# Altium schematic symbol library MySchlib.SchLib: 44 symbols
Pins are listed as number, name and electrical type; pins without a type are passive.

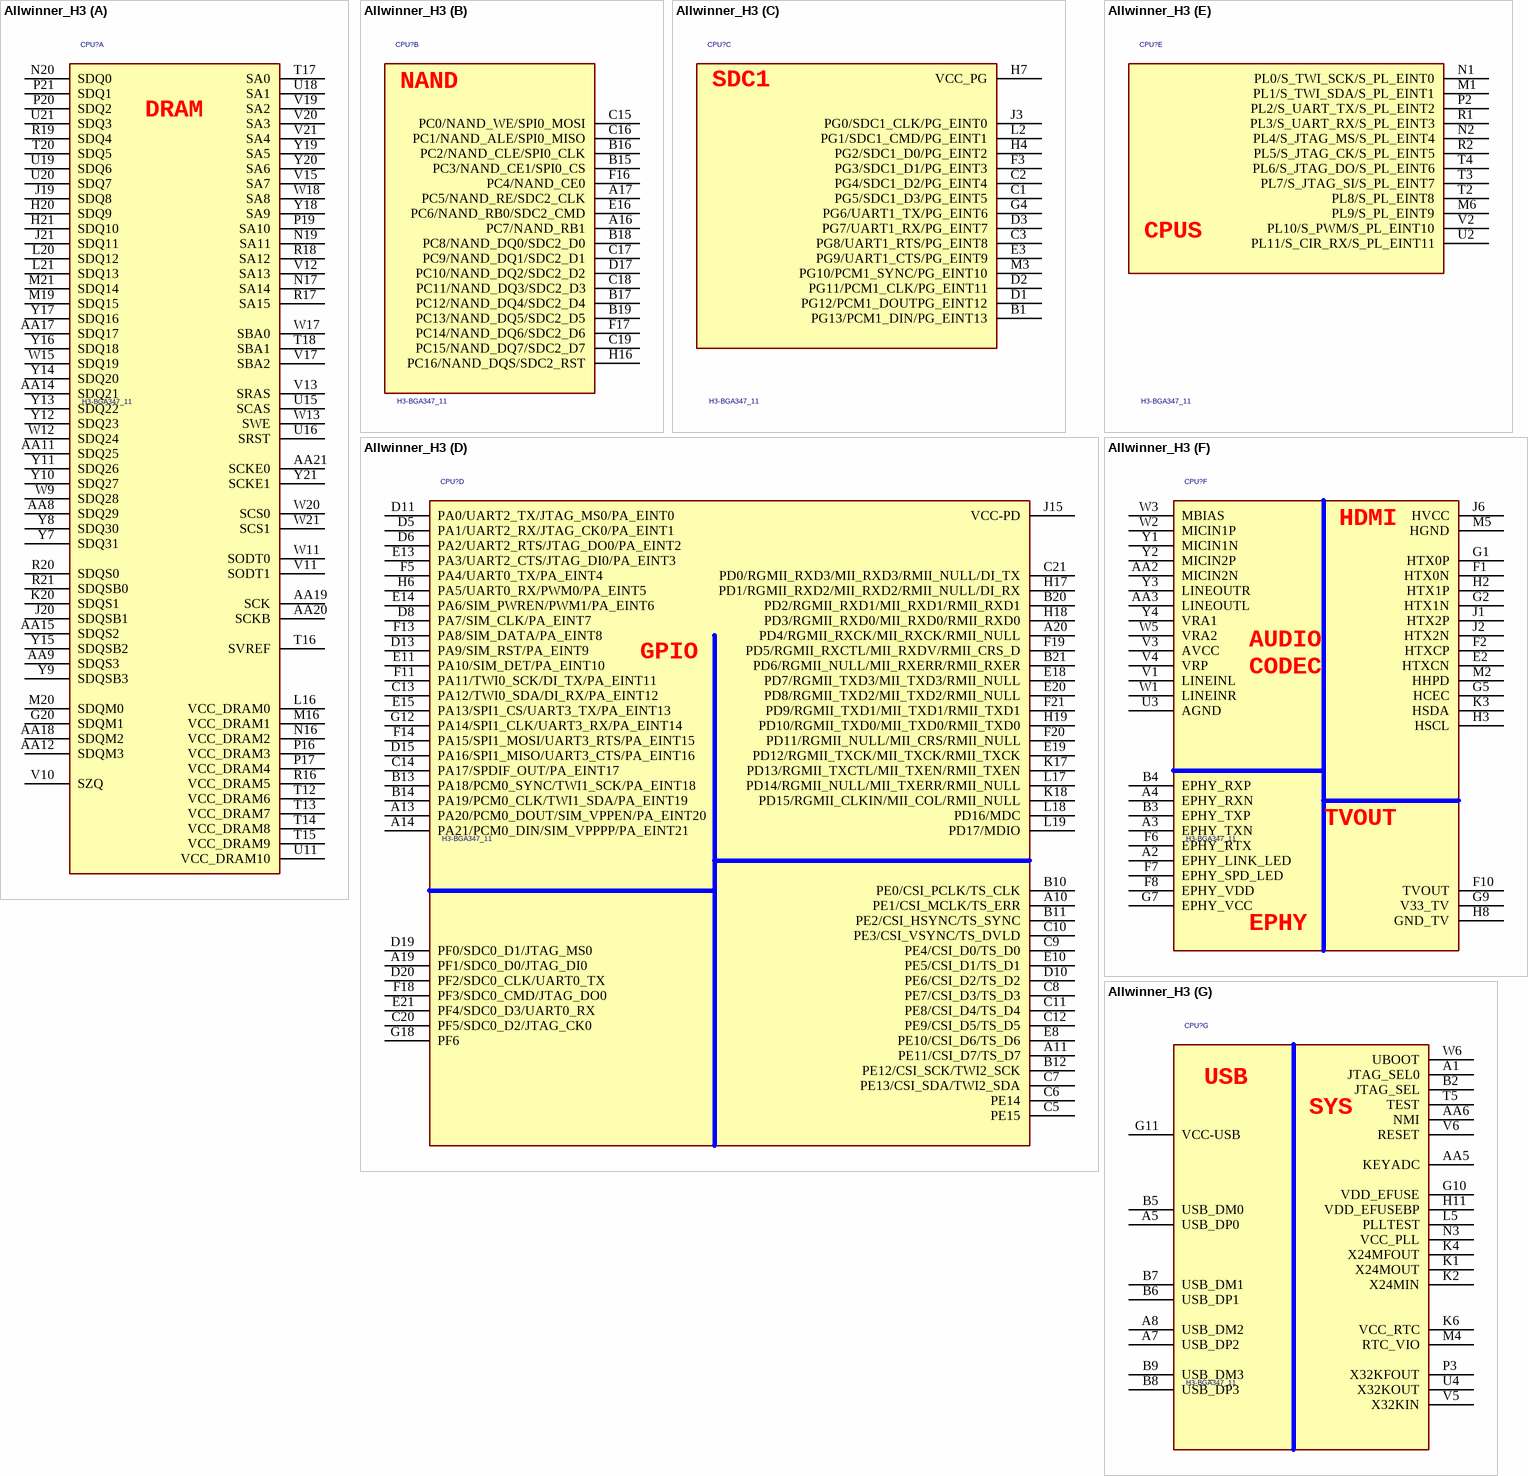
[diagram p0: symbol Allwinner_H3]

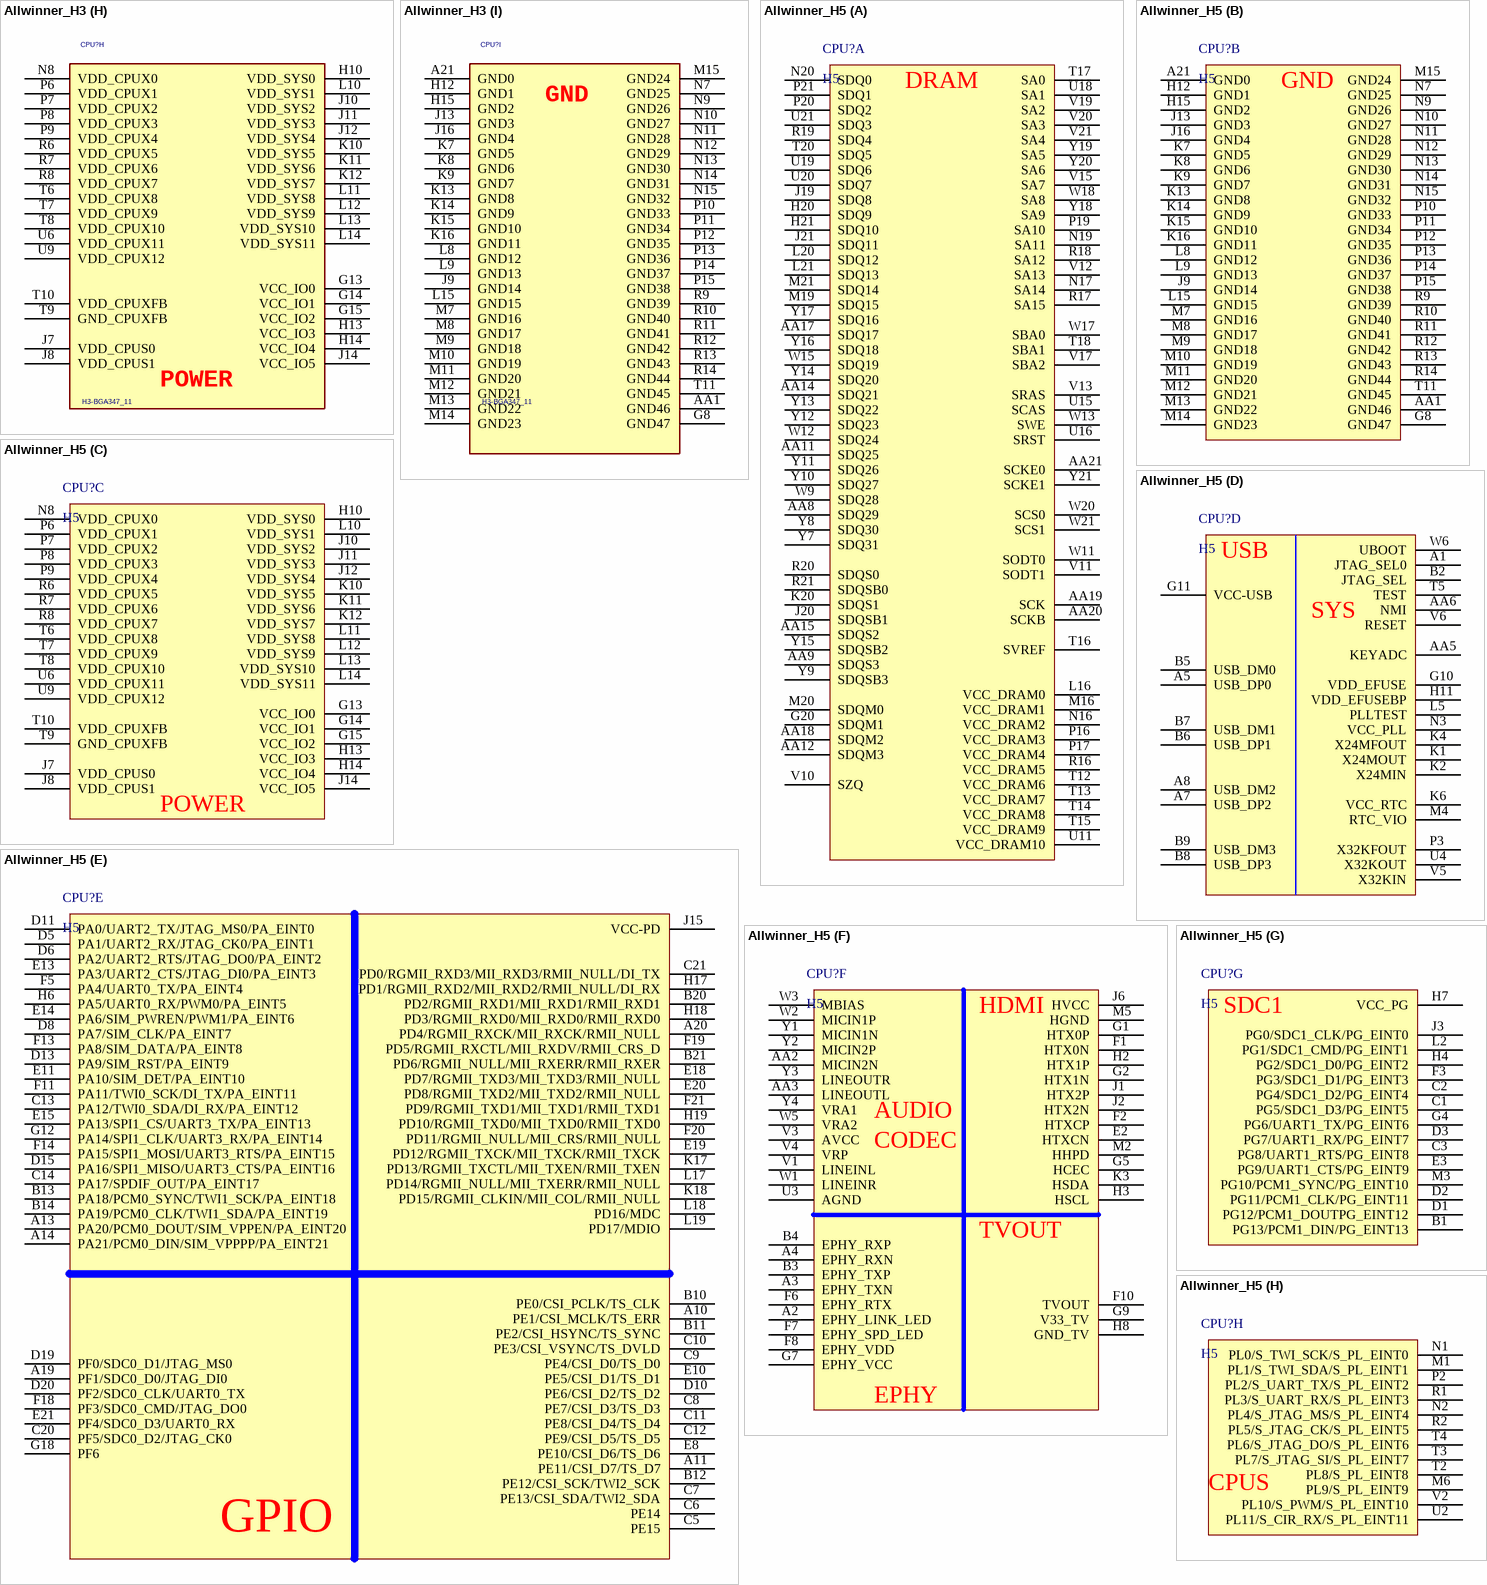
[diagram p1: symbols Allwinner_H3 to Allwinner_H5]

## Allwinner_H3
designator CPU?, comment H3-BGA347_11
H3-BGA3XX_11_BGA347P0_65B14X14
footprint BGA347P0_65B14X14
part A pins: AA8 SDQ29, AA9 SDQS3, AA11 SDQ25, AA12 SDQM3, AA14 SDQ21, AA15 SDQS2, AA17 SDQ17, AA18 SDQM2, AA19 SCK, AA20 SCKB, AA21 SCKE0, G20 SDQM1, H20 SDQ9, H21 SDQ10, J19 SDQ8, J20 SDQSB1, J21 SDQ11, K20 SDQS1, L16 VCC_DRAM0, L20 SDQ12, L21 SDQ13, M16 VCC_DRAM1, M19 SDQ15, M20 SDQM0, M21 SDQ14, N16 VCC_DRAM2, N17 SA14, N19 SA11, N20 SDQ0, P16 VCC_DRAM3, P17 VCC_DRAM4, P19 SA10, P20 SDQ2, P21 SDQ1, R16 VCC_DRAM5, R17 SA15, R18 SA12, R19 SDQ4, R20 SDQS0, R21 SDQSB0, T12 VCC_DRAM6, T13 VCC_DRAM7, T14 VCC_DRAM8, T15 VCC_DRAM9, T16 SVREF, T17 SA0, T18 SBA1, T20 SDQ5, U11 VCC_DRAM10, U15 SCAS, U16 SRST, U18 SA1, U19 SDQ6, U20 SDQ7, U21 SDQ3, V10 SZQ, V11 SODT1, V12 SA13, V13 SRAS, V15 SA7, V17 SBA2, V19 SA2, V20 SA3, V21 SA4, W9 SDQ28, W11 SODT0, W12 SDQ24, W13 SWE, W15 SDQ19, W17 SBA0, W18 SA8, W20 SCS0, W21 SCS1, Y7 SDQ31, Y8 SDQ30, Y9 SDQSB3, Y10 SDQ27, Y11 SDQ26, Y12 SDQ23, Y13 SDQ22, Y14 SDQ20, Y15 SDQSB2, Y16 SDQ18, Y17 SDQ16, Y18 SA9, Y19 SA5, Y20 SA6, Y21 SCKE1
part B pins: A16 PC7/NAND_RB1, A17 PC5/NAND_RE/SDC2_CLK, B15 PC3/NAND_CE1/SPI0_CS, B16 PC2/NAND_CLE/SPI0_CLK, B17 PC12/NAND_DQ4/SDC2_D4, B18 PC8/NAND_DQ0/SDC2_D0, B19 PC13/NAND_DQ5/SDC2_D5, C15 PC0/NAND_WE/SPI0_MOSI, C16 PC1/NAND_ALE/SPI0_MISO, C17 PC9/NAND_DQ1/SDC2_D1, C18 PC11/NAND_DQ3/SDC2_D3, C19 PC15/NAND_DQ7/SDC2_D7, D17 PC10/NAND_DQ2/SDC2_D2, E16 PC6/NAND_RB0/SDC2_CMD, F16 PC4/NAND_CE0, F17 PC14/NAND_DQ6/SDC2_D6, H16 PC16/NAND_DQS/SDC2_RST
part C pins: B1 PG13/PCM1_DIN/PG_EINT13, C1 PG5/SDC1_D3/PG_EINT5, C2 PG4/SDC1_D2/PG_EINT4, C3 PG8/UART1_RTS/PG_EINT8, D1 PG12/PCM1_DOUTPG_EINT12, D2 PG11/PCM1_CLK/PG_EINT11, D3 PG7/UART1_RX/PG_EINT7, E3 PG9/UART1_CTS/PG_EINT9, F3 PG3/SDC1_D1/PG_EINT3, G4 PG6/UART1_TX/PG_EINT6, H4 PG2/SDC1_D0/PG_EINT2, H7 VCC_PG, J3 PG0/SDC1_CLK/PG_EINT0, L2 PG1/SDC1_CMD/PG_EINT1, M3 PG10/PCM1_SYNC/PG_EINT10
part D pins: A10 PE1/CSI_MCLK/TS_ERR, A11 PE11/CSI_D7/TS_D7, A13 PA20/PCM0_DOUT/SIM_VPPEN/PA_EINT20, A14 PA21/PCM0_DIN/SIM_VPPPP/PA_EINT21, A19 PF1/SDC0_D0/JTAG_DI0, A20 PD4/RGMII_RXCK/MII_RXCK/RMII_NULL, B10 PE0/CSI_PCLK/TS_CLK, B11 PE2/CSI_HSYNC/TS_SYNC, B12 PE12/CSI_SCK/TWI2_SCK, B13 PA18/PCM0_SYNC/TWI1_SCK/PA_EINT18, B14 PA19/PCM0_CLK/TWI1_SDA/PA_EINT19, B20 PD2/RGMII_RXD1/MII_RXD1/RMII_RXD1, B21 PD6/RGMII_NULL/MII_RXERR/RMII_RXER, C5 PE15, C6 PE14, C7 PE13/CSI_SDA/TWI2_SDA, C8 PE7/CSI_D3/TS_D3, C9 PE4/CSI_D0/TS_D0, C10 PE3/CSI_VSYNC/TS_DVLD, C11 PE8/CSI_D4/TS_D4, C12 PE9/CSI_D5/TS_D5, C13 PA12/TWI0_SDA/DI_RX/PA_EINT12, C14 PA17/SPDIF_OUT/PA_EINT17, C20 PF5/SDC0_D2/JTAG_CK0, C21 PD0/RGMII_RXD3/MII_RXD3/RMII_NULL/DI_TX, D5 PA1/UART2_RX/JTAG_CK0/PA_EINT1, D6 PA2/UART2_RTS/JTAG_DO0/PA_EINT2, D8 PA7/SIM_CLK/PA_EINT7, D10 PE6/CSI_D2/TS_D2, D11 PA0/UART2_TX/JTAG_MS0/PA_EINT0, D13 PA9/SIM_RST/PA_EINT9, D15 PA16/SPI1_MISO/UART3_CTS/PA_EINT16, D19 PF0/SDC0_D1/JTAG_MS0, D20 PF2/SDC0_CLK/UART0_TX, E8 PE10/CSI_D6/TS_D6, E10 PE5/CSI_D1/TS_D1, E11 PA10/SIM_DET/PA_EINT10, E13 PA3/UART2_CTS/JTAG_DI0/PA_EINT3, E14 PA6/SIM_PWREN/PWM1/PA_EINT6, E15 PA13/SPI1_CS/UART3_TX/PA_EINT13, E18 PD7/RGMII_TXD3/MII_TXD3/RMII_NULL, E19 PD12/RGMII_TXCK/MII_TXCK/RMII_TXCK, E20 PD8/RGMII_TXD2/MII_TXD2/RMII_NULL, E21 PF4/SDC0_D3/UART0_RX, F5 PA4/UART0_TX/PA_EINT4, F11 PA11/TWI0_SCK/DI_TX/PA_EINT11, F13 PA8/SIM_DATA/PA_EINT8, F14 PA15/SPI1_MOSI/UART3_RTS/PA_EINT15, F18 PF3/SDC0_CMD/JTAG_DO0, F19 PD5/RGMII_RXCTL/MII_RXDV/RMII_CRS_D, F20 PD11/RGMII_NULL/MII_CRS/RMII_NULL, F21 PD9/RGMII_TXD1/MII_TXD1/RMII_TXD1, G12 PA14/SPI1_CLK/UART3_RX/PA_EINT14, G18 PF6, H6 PA5/UART0_RX/PWM0/PA_EINT5, H17 PD1/RGMII_RXD2/MII_RXD2/RMII_NULL/DI_RX, H18 PD3/RGMII_RXD0/MII_RXD0/RMII_RXD0, H19 PD10/RGMII_TXD0/MII_TXD0/RMII_TXD0, J15 VCC-PD, K17 PD13/RGMII_TXCTL/MII_TXEN/RMII_TXEN, K18 PD15/RGMII_CLKIN/MII_COL/RMII_NULL, L17 PD14/RGMII_NULL/MII_TXERR/RMII_NULL, L18 PD16/MDC, L19 PD17/MDIO
part E pins: M1 PL1/S_TWI_SDA/S_PL_EINT1, M6 PL9/S_PL_EINT9, N1 PL0/S_TWI_SCK/S_PL_EINT0, N2 PL4/S_JTAG_MS/S_PL_EINT4, P2 PL2/S_UART_TX/S_PL_EINT2, R1 PL3/S_UART_RX/S_PL_EINT3, R2 PL5/S_JTAG_CK/S_PL_EINT5, T2 PL8/S_PL_EINT8, T3 PL7/S_JTAG_SI/S_PL_EINT7, T4 PL6/S_JTAG_DO/S_PL_EINT6, U2 PL11/S_CIR_RX/S_PL_EINT11, V2 PL10/S_PWM/S_PL_EINT10
part F pins: A2 EPHY_LINK_LED, A3 EPHY_TXN, A4 EPHY_RXN, AA2 MICIN2N, AA3 LINEOUTL, B3 EPHY_TXP, B4 EPHY_RXP, E2 HTXCN, F1 HTX0N, F2 HTXCP, F6 EPHY_RTX, F7 EPHY_SPD_LED, F8 EPHY_VDD, F10 TVOUT, G1 HTX0P, G2 HTX1N, G5 HCEC, G7 EPHY_VCC, G9 V33_TV, H2 HTX1P, H3 HSCL, H8 GND_TV, J1 HTX2P, J2 HTX2N, J6 HVCC, K3 HSDA, M2 HHPD, M5 HGND, U3 AGND, V1 LINEINL, V3 AVCC, V4 VRP, W1 LINEINR, W2 MICIN1P, W3 MBIAS, W5 VRA2, Y1 MICIN1N, Y2 MICIN2P, Y3 LINEOUTR, Y4 VRA1
part G pins: A1 JTAG_SEL0, A5 USB_DP0, A7 USB_DP2, A8 USB_DM2, AA5 KEYADC, AA6 NMI, B2 JTAG_SEL, B5 USB_DM0, B6 USB_DP1, B7 USB_DM1, B8 USB_DP3, B9 USB_DM3, G10 VDD_EFUSE, G11 VCC-USB, H11 VDD_EFUSEBP, K1 X24MOUT, K2 X24MIN, K4 X24MFOUT, K6 VCC_RTC, L5 PLLTEST, M4 RTC_VIO, N3 VCC_PLL, P3 X32KFOUT, T5 TEST, U4 X32KOUT, V5 X32KIN, V6 RESET, W6 UBOOT
part H pins: G13 VCC_IO0, G14 VCC_IO1, G15 VCC_IO2, H10 VDD_SYS0, H13 VCC_IO3, H14 VCC_IO4, J7 VDD_CPUS0, J8 VDD_CPUS1, J10 VDD_SYS2, J11 VDD_SYS3, J12 VDD_SYS4, J14 VCC_IO5, K10 VDD_SYS5, K11 VDD_SYS6, K12 VDD_SYS7, L10 VDD_SYS1, L11 VDD_SYS8, L12 VDD_SYS9, L13 VDD_SYS10, L14 VDD_SYS11, N8 VDD_CPUX0, P6 VDD_CPUX1, P7 VDD_CPUX2, P8 VDD_CPUX3, P9 VDD_CPUX4, R6 VDD_CPUX5, R7 VDD_CPUX6, R8 VDD_CPUX7, T6 VDD_CPUX8, T7 VDD_CPUX9, T8 VDD_CPUX10, T9 GND_CPUXFB, T10 VDD_CPUXFB, U6 VDD_CPUX11, U9 VDD_CPUX12
part I pins: A21 GND0, AA1 GND46, G8 GND47, H12 GND1, H15 GND2, J9 GND14, J13 GND3, J16 GND4, K7 GND5, K8 GND6, K9 GND7, K13 GND8, K14 GND9, K15 GND10, K16 GND11, L8 GND12, L9 GND13, L15 GND15, M7 GND16, M8 GND17, M9 GND18, M10 GND19, M11 GND20, M12 GND21, M13 GND22, M14 GND23, M15 GND24, N7 GND25, N9 GND26, N10 GND27, N11 GND28, N12 GND29, N13 GND30, N14 GND31, N15 GND32, P10 GND33, P11 GND34, P12 GND35, P13 GND36, P14 GND37, P15 GND38, R9 GND39, R10 GND40, R11 GND41, R12 GND42, R13 GND43, R14 GND44, T11 GND45
part A text: DRAM
part B text: NAND
part C text: SDC1
part D text: GPIO
part E text: CPUS
part F text: HDMI; AUDIO / CODEC; EPHY
part G text: USB; SYS
part H text: POWER
part I text: GND

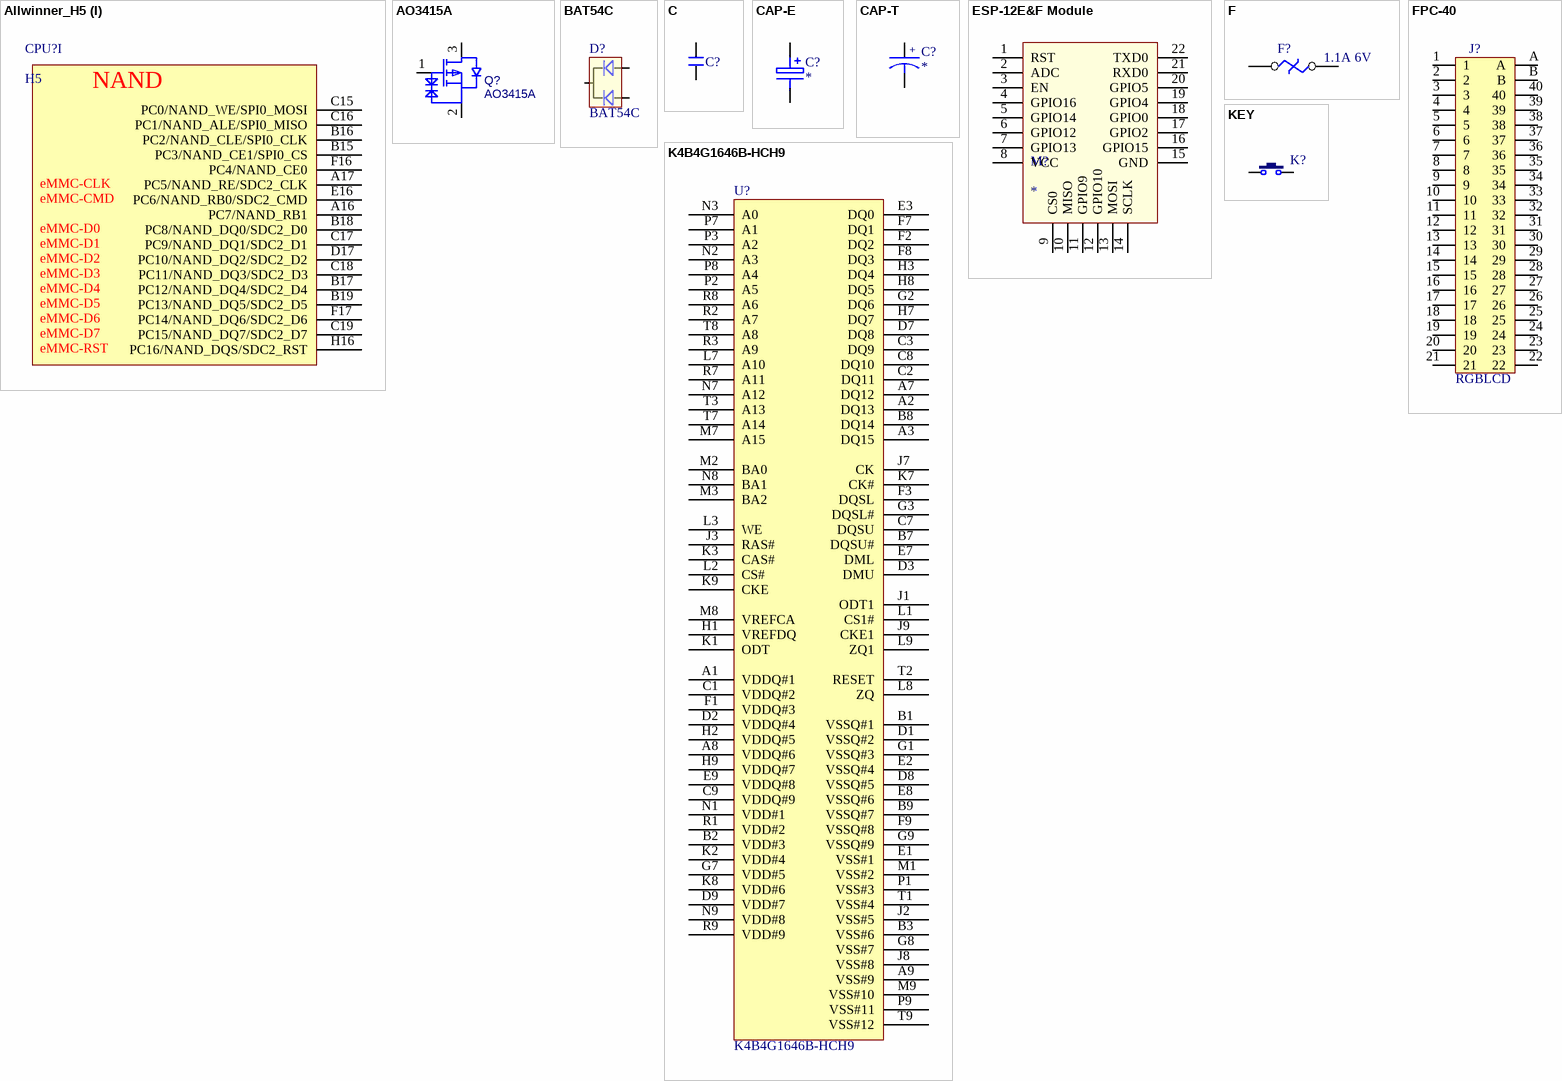
[diagram p2: symbols Allwinner_H5 to KEY]

## Allwinner_H5
designator CPU?, comment H5
H5, BGA347P0_65B14X14
footprint BGA347P0_65B14X14
part A pins: AA8 SDQ29, AA9 SDQS3, AA11 SDQ25, AA12 SDQM3, AA14 SDQ21, AA15 SDQS2, AA17 SDQ17, AA18 SDQM2, AA19 SCK, AA20 SCKB, AA21 SCKE0, G20 SDQM1, H20 SDQ9, H21 SDQ10, J19 SDQ8, J20 SDQSB1, J21 SDQ11, K20 SDQS1, L16 VCC_DRAM0, L20 SDQ12, L21 SDQ13, M16 VCC_DRAM1, M19 SDQ15, M20 SDQM0, M21 SDQ14, N16 VCC_DRAM2, N17 SA14, N19 SA11, N20 SDQ0, P16 VCC_DRAM3, P17 VCC_DRAM4, P19 SA10, P20 SDQ2, P21 SDQ1, R16 VCC_DRAM5, R17 SA15, R18 SA12, R19 SDQ4, R20 SDQS0, R21 SDQSB0, T12 VCC_DRAM6, T13 VCC_DRAM7, T14 VCC_DRAM8, T15 VCC_DRAM9, T16 SVREF, T17 SA0, T18 SBA1, T20 SDQ5, U11 VCC_DRAM10, U15 SCAS, U16 SRST, U18 SA1, U19 SDQ6, U20 SDQ7, U21 SDQ3, V10 SZQ, V11 SODT1, V12 SA13, V13 SRAS, V15 SA7, V17 SBA2, V19 SA2, V20 SA3, V21 SA4, W9 SDQ28, W11 SODT0, W12 SDQ24, W13 SWE, W15 SDQ19, W17 SBA0, W18 SA8, W20 SCS0, W21 SCS1, Y7 SDQ31, Y8 SDQ30, Y9 SDQSB3, Y10 SDQ27, Y11 SDQ26, Y12 SDQ23, Y13 SDQ22, Y14 SDQ20, Y15 SDQSB2, Y16 SDQ18, Y17 SDQ16, Y18 SA9, Y19 SA5, Y20 SA6, Y21 SCKE1
part B pins: A21 GND0, AA1 GND46, G8 GND47, H12 GND1, H15 GND2, J9 GND14, J13 GND3, J16 GND4, K7 GND5, K8 GND6, K9 GND7, K13 GND8, K14 GND9, K15 GND10, K16 GND11, L8 GND12, L9 GND13, L15 GND15, M7 GND16, M8 GND17, M9 GND18, M10 GND19, M11 GND20, M12 GND21, M13 GND22, M14 GND23, M15 GND24, N7 GND25, N9 GND26, N10 GND27, N11 GND28, N12 GND29, N13 GND30, N14 GND31, N15 GND32, P10 GND33, P11 GND34, P12 GND35, P13 GND36, P14 GND37, P15 GND38, R9 GND39, R10 GND40, R11 GND41, R12 GND42, R13 GND43, R14 GND44, T11 GND45
part C pins: G13 VCC_IO0, G14 VCC_IO1, G15 VCC_IO2, H10 VDD_SYS0, H13 VCC_IO3, H14 VCC_IO4, J7 VDD_CPUS0, J8 VDD_CPUS1, J10 VDD_SYS2, J11 VDD_SYS3, J12 VDD_SYS4, J14 VCC_IO5, K10 VDD_SYS5, K11 VDD_SYS6, K12 VDD_SYS7, L10 VDD_SYS1, L11 VDD_SYS8, L12 VDD_SYS9, L13 VDD_SYS10, L14 VDD_SYS11, N8 VDD_CPUX0, P6 VDD_CPUX1, P7 VDD_CPUX2, P8 VDD_CPUX3, P9 VDD_CPUX4, R6 VDD_CPUX5, R7 VDD_CPUX6, R8 VDD_CPUX7, T6 VDD_CPUX8, T7 VDD_CPUX9, T8 VDD_CPUX10, T9 GND_CPUXFB, T10 VDD_CPUXFB, U6 VDD_CPUX11, U9 VDD_CPUX12
part D pins: A1 JTAG_SEL0, A5 USB_DP0, A7 USB_DP2, A8 USB_DM2, AA5 KEYADC, AA6 NMI, B2 JTAG_SEL, B5 USB_DM0, B6 USB_DP1, B7 USB_DM1, B8 USB_DP3, B9 USB_DM3, G10 VDD_EFUSE, G11 VCC-USB, H11 VDD_EFUSEBP, K1 X24MOUT, K2 X24MIN, K4 X24MFOUT, K6 VCC_RTC, L5 PLLTEST, M4 RTC_VIO, N3 VCC_PLL, P3 X32KFOUT, T5 TEST, U4 X32KOUT, V5 X32KIN, V6 RESET, W6 UBOOT
part E pins: A10 PE1/CSI_MCLK/TS_ERR, A11 PE11/CSI_D7/TS_D7, A13 PA20/PCM0_DOUT/SIM_VPPEN/PA_EINT20, A14 PA21/PCM0_DIN/SIM_VPPPP/PA_EINT21, A19 PF1/SDC0_D0/JTAG_DI0, A20 PD4/RGMII_RXCK/MII_RXCK/RMII_NULL, B10 PE0/CSI_PCLK/TS_CLK, B11 PE2/CSI_HSYNC/TS_SYNC, B12 PE12/CSI_SCK/TWI2_SCK, B13 PA18/PCM0_SYNC/TWI1_SCK/PA_EINT18, B14 PA19/PCM0_CLK/TWI1_SDA/PA_EINT19, B20 PD2/RGMII_RXD1/MII_RXD1/RMII_RXD1, B21 PD6/RGMII_NULL/MII_RXERR/RMII_RXER, C5 PE15, C6 PE14, C7 PE13/CSI_SDA/TWI2_SDA, C8 PE7/CSI_D3/TS_D3, C9 PE4/CSI_D0/TS_D0, C10 PE3/CSI_VSYNC/TS_DVLD, C11 PE8/CSI_D4/TS_D4, C12 PE9/CSI_D5/TS_D5, C13 PA12/TWI0_SDA/DI_RX/PA_EINT12, C14 PA17/SPDIF_OUT/PA_EINT17, C20 PF5/SDC0_D2/JTAG_CK0, C21 PD0/RGMII_RXD3/MII_RXD3/RMII_NULL/DI_TX, D5 PA1/UART2_RX/JTAG_CK0/PA_EINT1, D6 PA2/UART2_RTS/JTAG_DO0/PA_EINT2, D8 PA7/SIM_CLK/PA_EINT7, D10 PE6/CSI_D2/TS_D2, D11 PA0/UART2_TX/JTAG_MS0/PA_EINT0, D13 PA9/SIM_RST/PA_EINT9, D15 PA16/SPI1_MISO/UART3_CTS/PA_EINT16, D19 PF0/SDC0_D1/JTAG_MS0, D20 PF2/SDC0_CLK/UART0_TX, E8 PE10/CSI_D6/TS_D6, E10 PE5/CSI_D1/TS_D1, E11 PA10/SIM_DET/PA_EINT10, E13 PA3/UART2_CTS/JTAG_DI0/PA_EINT3, E14 PA6/SIM_PWREN/PWM1/PA_EINT6, E15 PA13/SPI1_CS/UART3_TX/PA_EINT13, E18 PD7/RGMII_TXD3/MII_TXD3/RMII_NULL, E19 PD12/RGMII_TXCK/MII_TXCK/RMII_TXCK, E20 PD8/RGMII_TXD2/MII_TXD2/RMII_NULL, E21 PF4/SDC0_D3/UART0_RX, F5 PA4/UART0_TX/PA_EINT4, F11 PA11/TWI0_SCK/DI_TX/PA_EINT11, F13 PA8/SIM_DATA/PA_EINT8, F14 PA15/SPI1_MOSI/UART3_RTS/PA_EINT15, F18 PF3/SDC0_CMD/JTAG_DO0, F19 PD5/RGMII_RXCTL/MII_RXDV/RMII_CRS_D, F20 PD11/RGMII_NULL/MII_CRS/RMII_NULL, F21 PD9/RGMII_TXD1/MII_TXD1/RMII_TXD1, G12 PA14/SPI1_CLK/UART3_RX/PA_EINT14, G18 PF6, H6 PA5/UART0_RX/PWM0/PA_EINT5, H17 PD1/RGMII_RXD2/MII_RXD2/RMII_NULL/DI_RX, H18 PD3/RGMII_RXD0/MII_RXD0/RMII_RXD0, H19 PD10/RGMII_TXD0/MII_TXD0/RMII_TXD0, J15 VCC-PD, K17 PD13/RGMII_TXCTL/MII_TXEN/RMII_TXEN, K18 PD15/RGMII_CLKIN/MII_COL/RMII_NULL, L17 PD14/RGMII_NULL/MII_TXERR/RMII_NULL, L18 PD16/MDC, L19 PD17/MDIO
part F pins: A2 EPHY_LINK_LED, A3 EPHY_TXN, A4 EPHY_RXN, AA2 MICIN2N, AA3 LINEOUTL, B3 EPHY_TXP, B4 EPHY_RXP, E2 HTXCN, F1 HTX0N, F2 HTXCP, F6 EPHY_RTX, F7 EPHY_SPD_LED, F8 EPHY_VDD, F10 TVOUT, G1 HTX0P, G2 HTX1N, G5 HCEC, G7 EPHY_VCC, G9 V33_TV, H2 HTX1P, H3 HSCL, H8 GND_TV, J1 HTX2P, J2 HTX2N, J6 HVCC, K3 HSDA, M2 HHPD, M5 HGND, U3 AGND, V1 LINEINL, V3 AVCC, V4 VRP, W1 LINEINR, W2 MICIN1P, W3 MBIAS, W5 VRA2, Y1 MICIN1N, Y2 MICIN2P, Y3 LINEOUTR, Y4 VRA1
part G pins: B1 PG13/PCM1_DIN/PG_EINT13, C1 PG5/SDC1_D3/PG_EINT5, C2 PG4/SDC1_D2/PG_EINT4, C3 PG8/UART1_RTS/PG_EINT8, D1 PG12/PCM1_DOUTPG_EINT12, D2 PG11/PCM1_CLK/PG_EINT11, D3 PG7/UART1_RX/PG_EINT7, E3 PG9/UART1_CTS/PG_EINT9, F3 PG3/SDC1_D1/PG_EINT3, G4 PG6/UART1_TX/PG_EINT6, H4 PG2/SDC1_D0/PG_EINT2, H7 VCC_PG, J3 PG0/SDC1_CLK/PG_EINT0, L2 PG1/SDC1_CMD/PG_EINT1, M3 PG10/PCM1_SYNC/PG_EINT10
part H pins: M1 PL1/S_TWI_SDA/S_PL_EINT1, M6 PL9/S_PL_EINT9, N1 PL0/S_TWI_SCK/S_PL_EINT0, N2 PL4/S_JTAG_MS/S_PL_EINT4, P2 PL2/S_UART_TX/S_PL_EINT2, R1 PL3/S_UART_RX/S_PL_EINT3, R2 PL5/S_JTAG_CK/S_PL_EINT5, T2 PL8/S_PL_EINT8, T3 PL7/S_JTAG_SI/S_PL_EINT7, T4 PL6/S_JTAG_DO/S_PL_EINT6, U2 PL11/S_CIR_RX/S_PL_EINT11, V2 PL10/S_PWM/S_PL_EINT10
part I pins: A16 PC7/NAND_RB1, A17 PC5/NAND_RE/SDC2_CLK, B15 PC3/NAND_CE1/SPI0_CS, B16 PC2/NAND_CLE/SPI0_CLK, B17 PC12/NAND_DQ4/SDC2_D4, B18 PC8/NAND_DQ0/SDC2_D0, B19 PC13/NAND_DQ5/SDC2_D5, C15 PC0/NAND_WE/SPI0_MOSI, C16 PC1/NAND_ALE/SPI0_MISO, C17 PC9/NAND_DQ1/SDC2_D1, C18 PC11/NAND_DQ3/SDC2_D3, C19 PC15/NAND_DQ7/SDC2_D7, D17 PC10/NAND_DQ2/SDC2_D2, E16 PC6/NAND_RB0/SDC2_CMD, F16 PC4/NAND_CE0, F17 PC14/NAND_DQ6/SDC2_D6, H16 PC16/NAND_DQS/SDC2_RST
part A text: DRAM
part B text: GND
part C text: POWER
part D text: USB; SYS
part E text: GPIO
part F text: HDMI; AUDIO; CODEC; EPHY
part G text: SDC1
part H text: CPUS
part I text: NAND; eMMC-CLK; eMMC-CMD; eMMC-D0; eMMC-D1; eMMC-D2; eMMC-D3; eMMC-D4; eMMC-D5; eMMC-D6; eMMC-D7; eMMC-RST

## AO3415A
designator Q?
BOM_Manufacturer: AOS; SMT Type: Extend; BOM_Supplier: LCSC; BOM_Manufacturer Part: AO3415A; BOM_Supplier Part: C133233; BOM_LCSC Assembly: Yes; spicePre: Q; spiceSymbolName: AO3415A
footprint LC-SOT-23(SOT-23-3)
pins: 1 G, 2 S, 3 D

## BAT54C
designator D?
双肖特基二极管
footprint LC-SOT-23(SOT-23-3)
pins: 1, 2, 3

## C
designator C?
无极性贴片电容; 版权归属: 源创客; BOM名称: 无极性贴片电容; 学习资源: www.ooocke.com
footprint LC-1206_C
footprint LC-0402_C
footprint LC-0603_C
footprint LC-0805_C
footprint 瓷片电容2.54mm
pins: 1, 2

## CAP-E
designator C?
电解电容
footprint CAPPR5-13x25 (Capacitor, Electrolytic, Radial; Body 13 x 25 mm (Dia.xH typ); Pin Spacing 5 mm (typ))
footprint CAPPR3.5-8x12 (Capacitor, Electrolytic, Radial; Body 8 x 12 mm (Dia.xH typ); Pin Spacing 3.5 mm (typ))
pins: 1, 2

## CAP-T
designator C?
钽电容
footprint LC-CASE-A_3216
footprint LC-CASE-B_3528
footprint LC-CASE-C_6032
footprint LC-CASE-D_7343
footprint LC-CASE-R_2012
footprint LC-CASE-E_7343
pins: 1, 2
text: +

## ESP-12E&F Module
designator M?
ESP-12E&F Module
footprint ESP-12E&F Module
pins: 1 RST, 2 ADC, 3 EN, 4 GPIO16, 5 GPIO14, 6 GPIO12, 7 GPIO13, 8 VCC, 9 CS0, 10 MISO, 11 GPIO9, 12 GPIO10, 13 MOSI, 14 SCLK, 15 GND, 16 GPIO15, 17 GPIO2, 18 GPIO0, 19 GPIO4, 20 GPIO5, 21 RXD0, 22 TXD0

## F
designator F?, comment 1.1A 6V
1206 贴片自恢复保险丝/保险管 PPTC MF-NSMF110-2 1.1A 6V
footprint LC-1206_R
pins: 1, 2

## FPC-40
designator J?, comment RGBLCD
FPC-40P-0.5mm
footprint FPC0.5-TOP40P (FPCTOP;0.5mm;)
pins: 1, 2, 3, 4, 5, 6, 7, 8, 9, 10, 11, 12, 13, 14, 15, 16, 17, 18, 19, 20, 21, 22, 23, 24, 25, 26, 27, 28, 29, 30, 31, 32, 33, 34, 35, 36, 37, 38, 39, 40, A, B

## K4B4G1646B-HCH9
designator U?
footprint FBGA-96 (BGA, 144-Leads, Body 7.50x13.30mmx1.10mm, Pitch 0.80mm)
pins: A1 VDDQ#1, A2 DQ13, A3 DQ15, A7 DQ12, A8 VDDQ#6, A9 VSS#9, B1 VSSQ#1, B2 VDD#3, B3 VSS#6, B7 DQSU#, B8 DQ14, B9 VSSQ#7, C1 VDDQ#2, C2 DQ11, C3 DQ9, C7 DQSU, C8 DQ10, C9 VDDQ#9, D1 VSSQ#2, D2 VDDQ#4, D3 DMU, D7 DQ8, D8 VSSQ#5, D9 VDD#7, E1 VSS#1, E2 VSSQ#4, E3 DQ0, E7 DML, E8 VSSQ#6, E9 VDDQ#8, F1 VDDQ#3, F2 DQ2, F3 DQSL, F7 DQ1, F8 DQ3, F9 VSSQ#8, G1 VSSQ#3, G2 DQ6, G3 DQSL#, G7 VDD#5, G8 VSS#7, G9 VSSQ#9, H1 VREFDQ, H2 VDDQ#5, H3 DQ4, H7 DQ7, H8 DQ5, H9 VDDQ#7, J1 ODT1, J2 VSS#5, J3 RAS#, J7 CK, J8 VSS#8, J9 CKE1, K1 ODT, K2 VDD#4, K3 CAS#, K7 CK#, K8 VDD#6, K9 CKE, L1 CS1#, L2 CS#, L3 WE, L7 A10, L8 ZQ, L9 ZQ1, M1 VSS#2, M2 BA0, M3 BA2, M7 A15, M8 VREFCA, M9 VSS#10, N1 VDD#1, N2 A3, N3 A0, N7 A12, N8 BA1, N9 VDD#8, P1 VSS#3, P2 A5, P3 A2, P7 A1, P8 A4, P9 VSS#11, R1 VDD#2, R2 A7, R3 A9, R7 A11, R8 A6, R9 VDD#9, T1 VSS#4, T2 RESET, T3 A13, T7 A14, T8 A8, T9 VSS#12

## KEY
designator K?
按键; BOM名称: 3x6轻触开关; 版权归属: 源创客; 学习资源: www.ooocke.com
footprint SWT3*4
pins: 1, 2

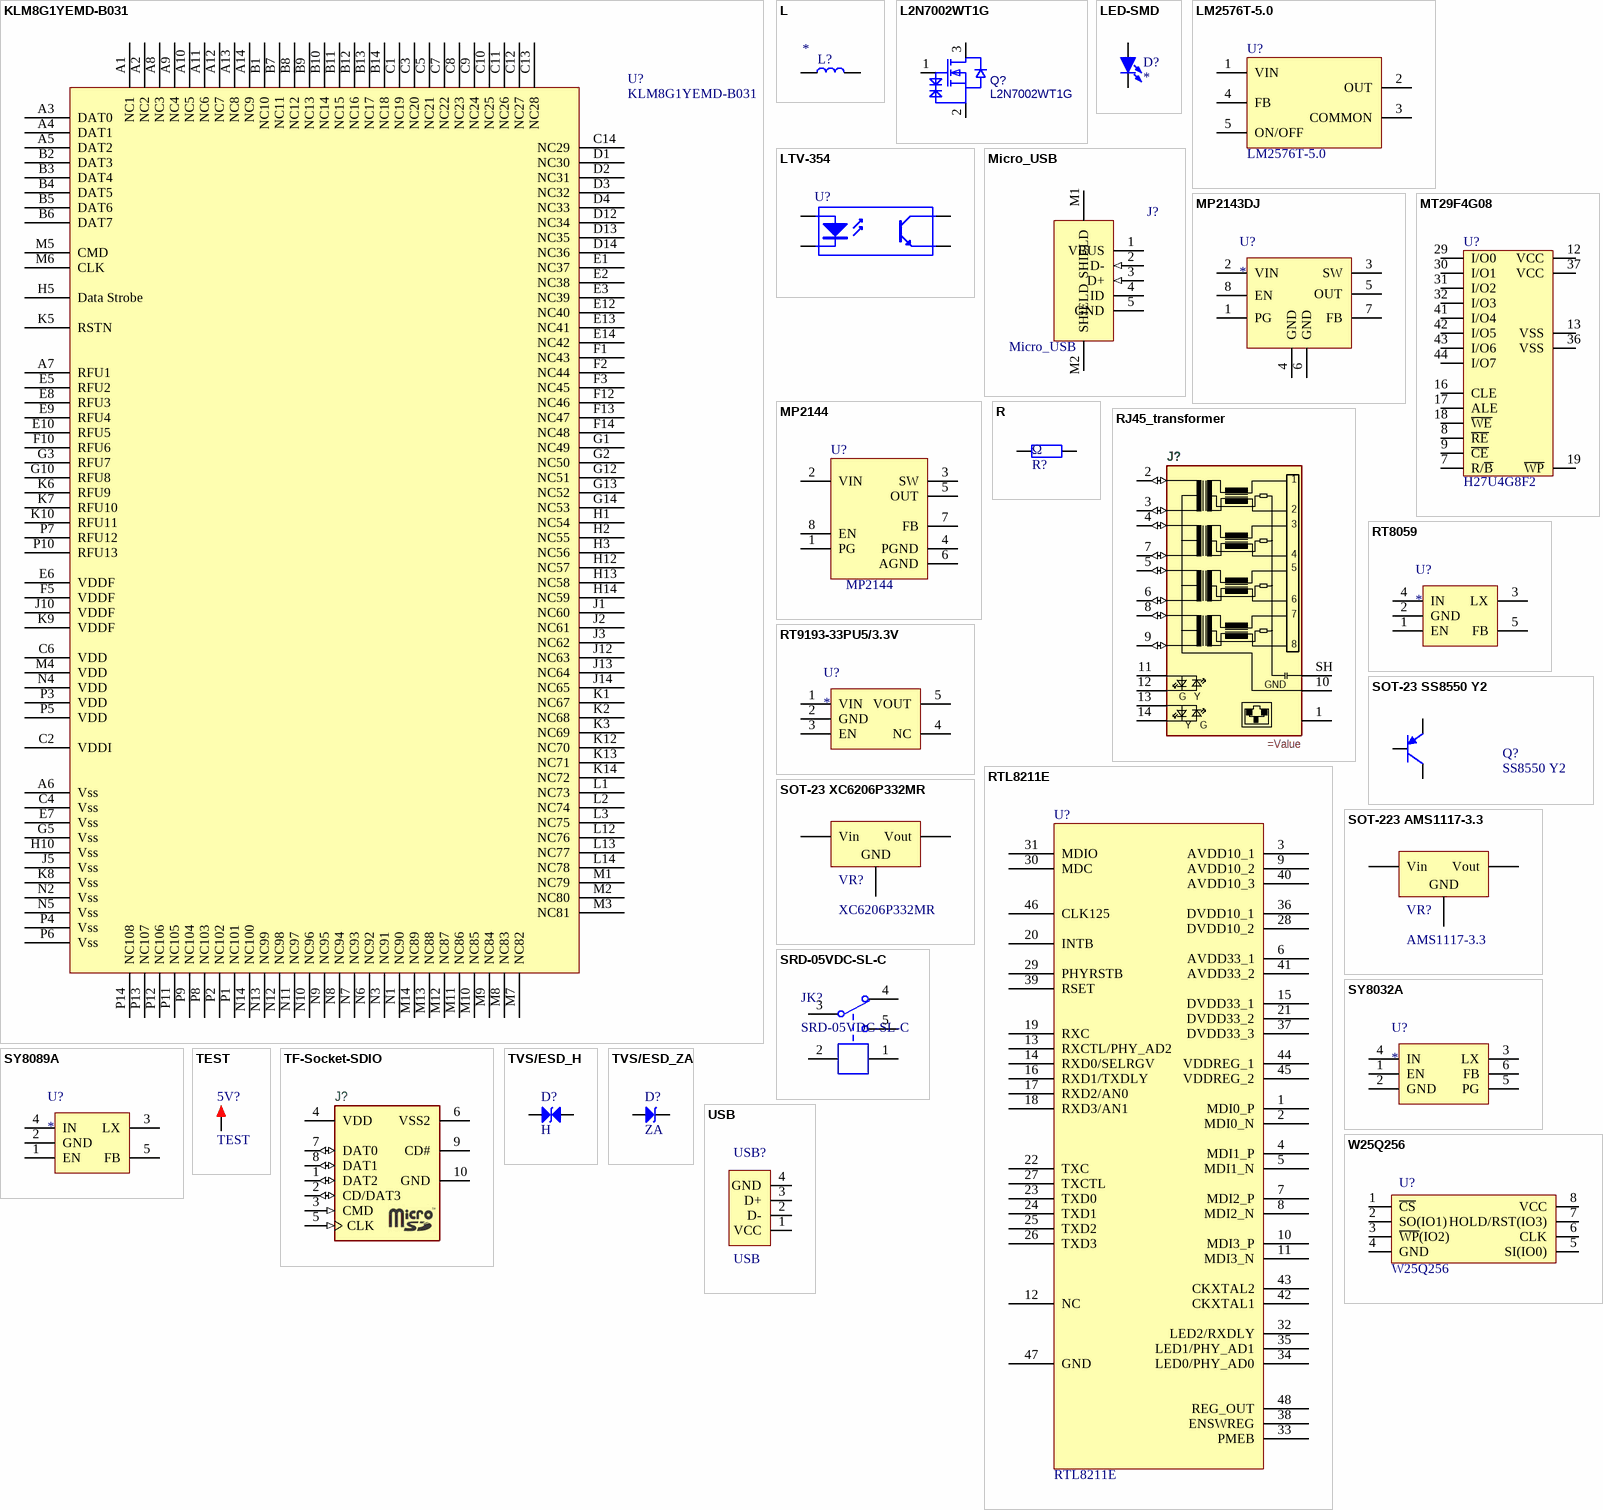
[diagram p3: symbols KLM8G1YEMD-B031 to W25Q256]

## KLM8G1YEMD-B031
designator U?
footprint FBGA153 (BGA, 153-Leads, Body 11.50x13.00mmx0.70mm, Pitch 0.50mm)
pins: A1 NC1, A2 NC2, A3 DAT0, A4 DAT1, A5 DAT2, A6 Vss, A7 RFU1, A8 NC3, A9 NC4, A10 NC5, A11 NC6, A12 NC7, A13 NC8, A14 NC9, B1 NC10, B2 DAT3, B3 DAT4, B4 DAT5, B5 DAT6, B6 DAT7, B7 NC11, B8 NC12, B9 NC13, B10 NC14, B11 NC15, B12 NC16, B13 NC17, B14 NC18, C1 NC19, C2 VDDI, C3 NC20, C4 Vss, C5 NC21, C6 VDD, C7 NC22, C8 NC23, C9 NC24, C10 NC25, C11 NC26, C12 NC27, C13 NC28, C14 NC29, D1 NC30, D2 NC31, D3 NC32, D4 NC33, D12 NC34, D13 NC35, D14 NC36, E1 NC37, E2 NC38, E3 NC39, E5 RFU2, E6 VDDF, E7 Vss, E8 RFU3, E9 RFU4, E10 RFU5, E12 NC40, E13 NC41, E14 NC42, F1 NC43, F2 NC44, F3 NC45, F5 VDDF, F10 RFU6, F12 NC46, F13 NC47, F14 NC48, G1 NC49, G2 NC50, G3 RFU7, G5 Vss, G10 RFU8, G12 NC51, G13 NC52, G14 NC53, H1 NC54, H2 NC55, H3 NC56, H5 Data Strobe, H10 Vss, H12 NC57, H13 NC58, H14 NC59, J1 NC60, J2 NC61, J3 NC62, J5 Vss, J10 VDDF, J12 NC63, J13 NC64, J14 NC65, K1 NC67, K2 NC68, K3 NC69, K5 RSTN, K6 RFU9, K7 RFU10, K8 Vss, K9 VDDF, K10 RFU11, K12 NC70, K13 NC71, K14 NC72, L1 NC73, L2 NC74, L3 NC75, L12 NC76, L13 NC77, L14 NC78, M1 NC79, M2 NC80, M3 NC81, M4 VDD, M5 CMD, M6 CLK, M7 NC82, M8 NC83, M9 NC84, M10 NC85, M11 NC86, M12 NC87, M13 NC88, M14 NC89, N1 NC90, N2 Vss, N3 NC91, N4 VDD, N5 Vss, N6 NC92, N7 NC93, N8 NC94, N9 NC95, N10 NC96, N11 NC97, N12 NC98, N13 NC99, N14 NC100, P1 NC101, P2 NC102, P3 VDD, P4 Vss, P5 VDD, P6 Vss, P7 RFU12, P8 NC103, P9 NC104, P10 RFU13, P11 NC105, P12 NC106, P13 NC107, P14 NC108

## L
designator L?
电感
footprint NR2520 (2.5mm*2.0mm*1.0mm(长*宽*高）)
footprint LC-1206_L
footprint LC-0402_L
footprint LC-0805_L
footprint LC-0805_L
footprint CDRH127 (12*12*8mm（长宽高）)
footprint CD32_Y
footprint CD32 (3.5*3*2mm（长宽高）)
footprint NR3015
pins: 1, 2

## L2N7002WT1G
designator Q?
BOM_Manufacturer: LRC; SMT Type: Extend; BOM_Supplier: LCSC; BOM_Manufacturer Part: L2N7002WT1G; BOM_Supplier Part: C12778; BOM_LCSC Assembly: Yes; spicePre: Q; spiceSymbolName: L2N7002WT1G
footprint LC-SOT-23(SOT-23-3)
pins: 1 G, 2 S, 3 D

## LED-SMD
designator D?
贴片LED; 版权归属: 源创客; BOM名称: 贴片LED; 学习资源: www.ooocke.com
footprint LC-0805_LED_S1
footprint LC-0603_LED_S1
pins: 1 A, 2 K

## LM2576T-5.0
designator U?
CI-LM2576T-5.0
footprint TO220-5A (220，5脚晶体管)
pins: 1 VIN, 2 OUT, 3 COMMON, 4 FB, 5 ON/OFF

## LTV-354
designator U?
贴片光耦; ComponentLink1Description: 供应商链接; ComponentLink1URL: http://www.szlcsc.com/product/details_7114.html; Package: SOP-4_P2.54; Supplier: LC; SuppliersPartNumber: C6649
footprint LC-SOP-4_P2.54
pins: 1 A "Anode", 2 K "Cathode", 3 E "Emitter", 4 C "Collector"

## Micro_USB
designator J?
HelpURL: https://item.taobao.com/item.htm?spm=a230r.1.14.48.76bf5237G2R5N&id=522578920966&ns=1&abbucket=3#detail
footprint USB-MICRO_B (micro型USB ，5.9*8.2*2.5mm)
pins: 1 VBUS (power) "Power", 2 D- (in) "-DATA", 3 D+ (in) "+DATA", 4 ID "No connect", 5 GND (power) "Ground", M1 SHIELD, M2 SHIELD

## MP2143DJ
designator U?
footprint LC-SOT-23-8
pins: 1 PG, 2 VIN, 3 SW, 4 GND, 5 OUT, 6 GND, 7 FB, 8 EN

## MP2144
designator U?
footprint SOT23-8L
pins: 1 PG, 2 VIN, 3 SW, 4 PGND, 5 OUT, 6 AGND, 7 FB, 8 EN

## MT29F4G08
designator U?, comment H27U4G8F2
NAND FLASH
footprint TSOP48
pins: 7 R/~{B}, 8 ~{RE}, 9 ~{CE}, 12 VCC, 13 VSS, 16 CLE, 17 ALE, 18 ~{WE}, 19 ~{WP}, 29 I/O0, 30 I/O1, 31 I/O2, 32 I/O3, 36 VSS, 37 VCC, 41 I/O4, 42 I/O5, 43 I/O6, 44 I/O7

## R
designator R?, comment Ω
电阻; ComponentLink1Description: 供应商链接; ComponentLink1URL: http://www.szlcsc.com/product/details_24078.html; Package: 0603; Supplier: LC; SuppliersPartNumber: C23345
footprint LC-0402_R
footprint LC-0603_R
footprint LC-1206_R
footprint LC-0805_R
footprint AXIAL0.4-1/4W (脚距9mm，直径2.3mm)
pins: 1, 2

## RJ45_transformer
designator J?
=Description
pins: 1 (power), 2 (io), 3 (io), 4 (io), 5 (io), 6 (io), 7 (io), 8 (io), 9 (io), 10 (power), 11, 12, 13, 14, SH
text: GND; G; Y

## RT8059
designator U?
footprint LC-SOT-23-5
pins: 1 EN, 2 GND, 3 LX, 4 IN, 5 FB

## RT9193-33PU5/3.3V
designator U?
footprint LC-SOT-23-5
pins: 1 VIN, 2 GND, 3 EN, 4 NC, 5 VOUT

## RTL8211E
designator U?
RTL8211E-VB-CG
footprint QFN-48_7x7x05P
pins: 1 MDI0_P, 2 MDI0_N, 3 AVDD10_1, 4 MDI1_P, 5 MDI1_N, 6 AVDD33_1, 7 MDI2_P, 8 MDI2_N, 9 AVDD10_2, 10 MDI3_P, 11 MDI3_N, 12 NC, 13 RXCTL/PHY_AD2, 14 RXD0/SELRGV, 15 DVDD33_1, 16 RXD1/TXDLY, 17 RXD2/AN0, 18 RXD3/AN1, 19 RXC, 20 INTB, 21 DVDD33_2, 22 TXC, 23 TXD0, 24 TXD1, 25 TXD2, 26 TXD3, 27 TXCTL, 28 DVDD10_2, 29 PHYRSTB, 30 MDC, 31 MDIO, 32 LED2/RXDLY, 33 PMEB, 34 LED0/PHY_AD0, 35 LED1/PHY_AD1, 36 DVDD10_1, 37 DVDD33_3, 38 ENSWREG, 39 RSET, 40 AVDD10_3, 41 AVDD33_2, 42 CKXTAL1, 43 CKXTAL2, 44 VDDREG_1, 45 VDDREG_2, 46 CLK125, 47 GND, 48 REG_OUT

## SOT-23 SS8550 Y2
designator Q?, comment SS8550 Y2
三极管; ComponentLink1Description: 供应商链接; ComponentLink1URL: http://www.szlcsc.com/product/details_9037.html; Package: SOT-23; Supplier: LC; SuppliersPartNumber: C8542
footprint LC-SOT-23(SOT-23-3)
pins: 1 B, 2 E, 3 C

## SOT-23 XC6206P332MR
designator VR?, comment XC6206P332MR
低压差线性稳压(LDO); ComponentLink1Description: 供应商链接; ComponentLink1URL: http://www.szlcsc.com/product/details_5896.html; Package: SOT-23; Supplier: LC; SuppliersPartNumber: C5446
footprint LC-SOT-23(SOT-23-3)
pins: 1 GND, 2 Vout, 3 Vin

## SOT-223 AMS1117-3.3
designator VR?, comment AMS1117-3.3
低压差线性稳压(LDO); ComponentLink1Description: 供应商链接; ComponentLink1URL: http://www.szlcsc.com/product/details_6652.html; Package: SOT-223; Supplier: LC; SuppliersPartNumber: C6186
footprint LC-SOT-223
pins: 1 GND, 2 Vout, 3 Vin

## SRD-05VDC-SL-C
designator JK?
5V一组转换; BOM名称: 5V继电器; 版权归属: 源创客; 学习资源: www.ooocke.com
footprint SRD-C_B (单刀双投)
pins: 1, 2, 3, 4, 5

## SY8032A
designator U?
footprint LC-SOT-23-6
pins: 1 EN, 2 GND, 3 LX, 4 IN, 5 PG, 6 FB

## SY8089A
designator U?
footprint LC-SOT-23-5
pins: 1 EN, 2 GND, 3 LX, 4 IN, 5 FB

## TEST
designator 5V?
测试点; 版权归属: 源创客; BOM名称: 测试点; 学习资源: www.ooocke.com
footprint TEST 1
pins: 1

## TF-Socket-SDIO
designator J?  (value not drawn)
footprint TF_1
footprint TF_3
pins: 1 DAT2 (io), 2 CD/DAT3 (io), 3 CMD (in), 4 VDD (power), 5 CLK (in), 6 VSS2 (power), 7 DAT0 (io), 8 DAT1 (io), 9 CD#, 10 GND (power)

## TVS/ESD_H
designator D?, comment H
双向防静电二极管 CESDBLC5V0D3丝印H
footprint LC-SOD-323
pins: 1, 2

## TVS/ESD_ZA
designator D?, comment ZA
单向防静电二极管 CESD5V0D3丝印ZA
footprint LC-SOD-323
pins: 1, 2

## USB
designator USB?
footprint USB_A/P_B (A型USB 插头，20*13*4.5mm)
footprint USB_A_G
pins: 1 VCC, 2 D-, 3 D+, 4 GND

## W25Q256
designator U?
外置flash
footprint WSON8
footprint SOP8W_L (5.3*8.3*1.8mm（长宽高）)
pins: 1 ~{CS}, 2 SO(IO1), 3 ~{WP}(IO2), 4 GND, 5 SI(IO0) (power), 6 CLK, 7 HOLD/RST(IO3) (power), 8 VCC

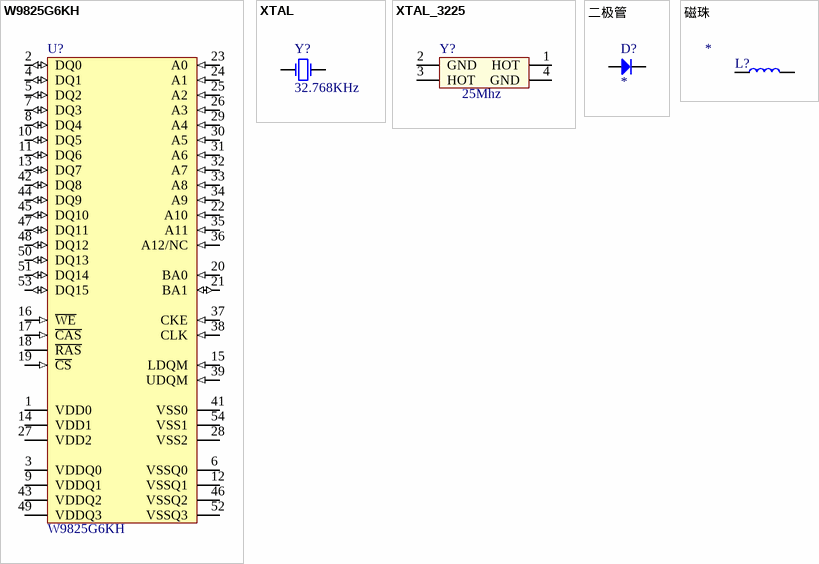
[diagram p4: symbols W9825G6KH to 磁珠]

## W9825G6KH
designator U?
WINBOND SDRAM
footprint TSOP54
pins: 1 VDD0 (power), 2 DQ0 (io), 3 VDDQ0 (power), 4 DQ1 (io), 5 DQ2 (io), 6 VSSQ0 (power), 7 DQ3 (io), 8 DQ4 (io), 9 VDDQ1 (power), 10 DQ5 (io), 11 DQ6 (io), 12 VSSQ1 (power), 13 DQ7 (io), 14 VDD1 (power), 15 LDQM (in), 16 ~{WE} (in), 17 ~{CAS} (in), 18 ~{RAS}, 19 ~{CS} (in), 20 BA0 (in), 21 BA1 (io), 22 A10 (in), 23 A0 (in), 24 A1 (in), 25 A2 (in), 26 A3 (in), 27 VDD2 (power), 28 VSS2 (power), 29 A4 (in), 30 A5 (in), 31 A6 (in), 32 A7 (in), 33 A8 (in), 34 A9 (in), 35 A11 (in), 36 A12/NC (in), 37 CKE (in), 38 CLK (in), 39 UDQM (in), 41 VSS0 (power), 42 DQ8 (io), 43 VDDQ2 (power), 44 DQ9 (io), 45 DQ10 (io), 46 VSSQ2 (power), 47 DQ11 (io), 48 DQ12 (io), 49 VDDQ3 (power), 50 DQ13 (io), 51 DQ14 (io), 52 VSSQ3 (power), 53 DQ15 (io), 54 VSS1 (power)

## XTAL
designator Y?, comment 32.768KHz
普通晶振; Published: 8-Jun-2000; LatestRevisionDate: 17-Jul-2002; LatestRevisionNote: Re-released for DXP Platform.; Publisher: Altium Limited
footprint OSC HC-49S
footprint LC-SMD-3215_2P FC - 135
pins: 1 OSC1, 2 OSC2

## XTAL_3225
designator Y?, comment 25Mhz
3225贴片无源晶振
footprint LC-SMD-3225_4P
pins: 1 HOT, 2 GND, 3 HOT, 4 GND

## 二极管
designator D?
普通二极管
footprint LL4108
footprint LC-SOD-323
footprint LC-CASE-017AA-01 (=CASE 017AA-01 Diode)
pins: 1, 2

## 磁珠
designator L?
0603贴片磁珠 600欧 400mA ±25% 100MHz
footprint LC-0603_L
pins: 1, 2